# Altium footprint library exar.PCBLIB: 33 footprints (part 3 of 3)
Each footprint in its own frame and in the unit in brackets; x right, y up, seen from the top. Pads: shape width x height; smd on the part's side, far side on the other; paste and mask are expansions set on the pad; w line width, h text height; cw(c..) or ccw(c..) is an arc to the next point about the centre after c.
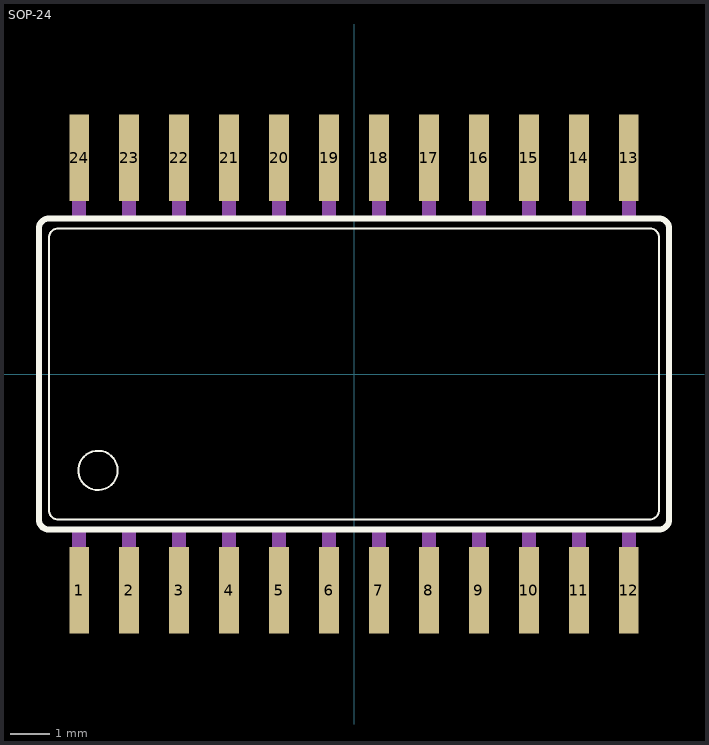
[diagram p2: the footprint, top view; thin cyan lines are the x and y axes]

## SOP-24 [mil]
pads (24):
  rect 19.69x86.61 smd: 1(-275,-216.54) 2(-225,-216.54) 3(-175,-216.54) 4(-125,-216.54) 5(-75,-216.54) 6(-25,-216.54) 7(25,-216.54) 8(75,-216.54) 9(125,-216.54) 10(175,-216.54) 11(225,-216.54) 12(275,-216.54) 13(275,216.54) 14(225,216.54) 15(175,216.54) 16(125,216.54) 17(75,216.54) 18(25,216.54) 19(-25,216.54) 20(-75,216.54) 21(-125,216.54) 22(-175,216.54) 23(-225,216.54) 24(-275,216.54)
Top Overlay:
  circle w2: c-256.1,-96.46 r19.69
  lines w2: -305.32,-135.83 -305.32,135.83 cw(c-295.48,135.82) -295.47,145.67 295.87,145.67 cw(c295.67,136.02) 305.32,136.22 305.32,-135.83 cw(c295.48,-135.82) 295.47,-145.67 -295.47,-145.67 cw(c-295.48,-135.82) -305.32,-135.83
  lines w6: -305.35,155.51 -305.32,155.51 ; -305.32,155.51 305.32,155.51 cw(c305.32,145.67) 315.16,145.67 315.16,-145.67 cw(c305.32,-145.67) 305.32,-155.51 -305.32,-155.51 cw(c-305.33,-145.67) -315.16,-146.06 -315.16,145.67 cw(c-305.32,145.67) -305.32,155.51
Mechanical 16:
  rectangle: -281.89,155.51 -268.11,236.22
  rectangle: -231.89,155.51 -218.11,236.22
  rectangle: -181.89,155.51 -168.11,236.22
  rectangle: -131.89,155.51 -118.11,236.22
  rectangle: -81.89,155.51 -68.11,236.22
  rectangle: -31.89,155.51 -18.11,236.22
  rectangle: 18.11,155.51 31.89,236.22
  rectangle: 68.11,155.51 81.89,236.22
  rectangle: 118.11,155.51 131.89,236.22
  rectangle: 168.11,155.51 181.89,236.22
  rectangle: 218.11,155.51 231.89,236.22
  rectangle: 268.11,155.51 281.89,236.22
  rectangle: -281.89,-236.22 -268.11,-155.51
  rectangle: -231.89,-236.22 -218.11,-155.51
  rectangle: -181.89,-236.22 -168.11,-155.51
  rectangle: -131.89,-236.22 -118.11,-155.51
  rectangle: -81.89,-236.22 -68.11,-155.51
  rectangle: -31.89,-236.22 -18.11,-155.51
  rectangle: 18.11,-236.22 31.89,-155.51
  rectangle: 68.11,-236.22 81.89,-155.51
  rectangle: 118.11,-236.22 131.89,-155.51
  rectangle: 168.11,-236.22 181.89,-155.51
  rectangle: 218.11,-236.22 231.89,-155.51
  rectangle: 268.11,-236.22 281.89,-155.51